# Altium footprint library Mega16SMT.PcbLib: 22 footprints (part 1 of 2)
Each footprint in its own frame and in the unit in brackets; x right, y up, seen from the top. Pads: shape width x height; smd on the part's side, far side on the other; paste and mask are expansions set on the pad; w line width, h text height; cw(c..) or ccw(c..) is an arc to the next point about the centre after c.
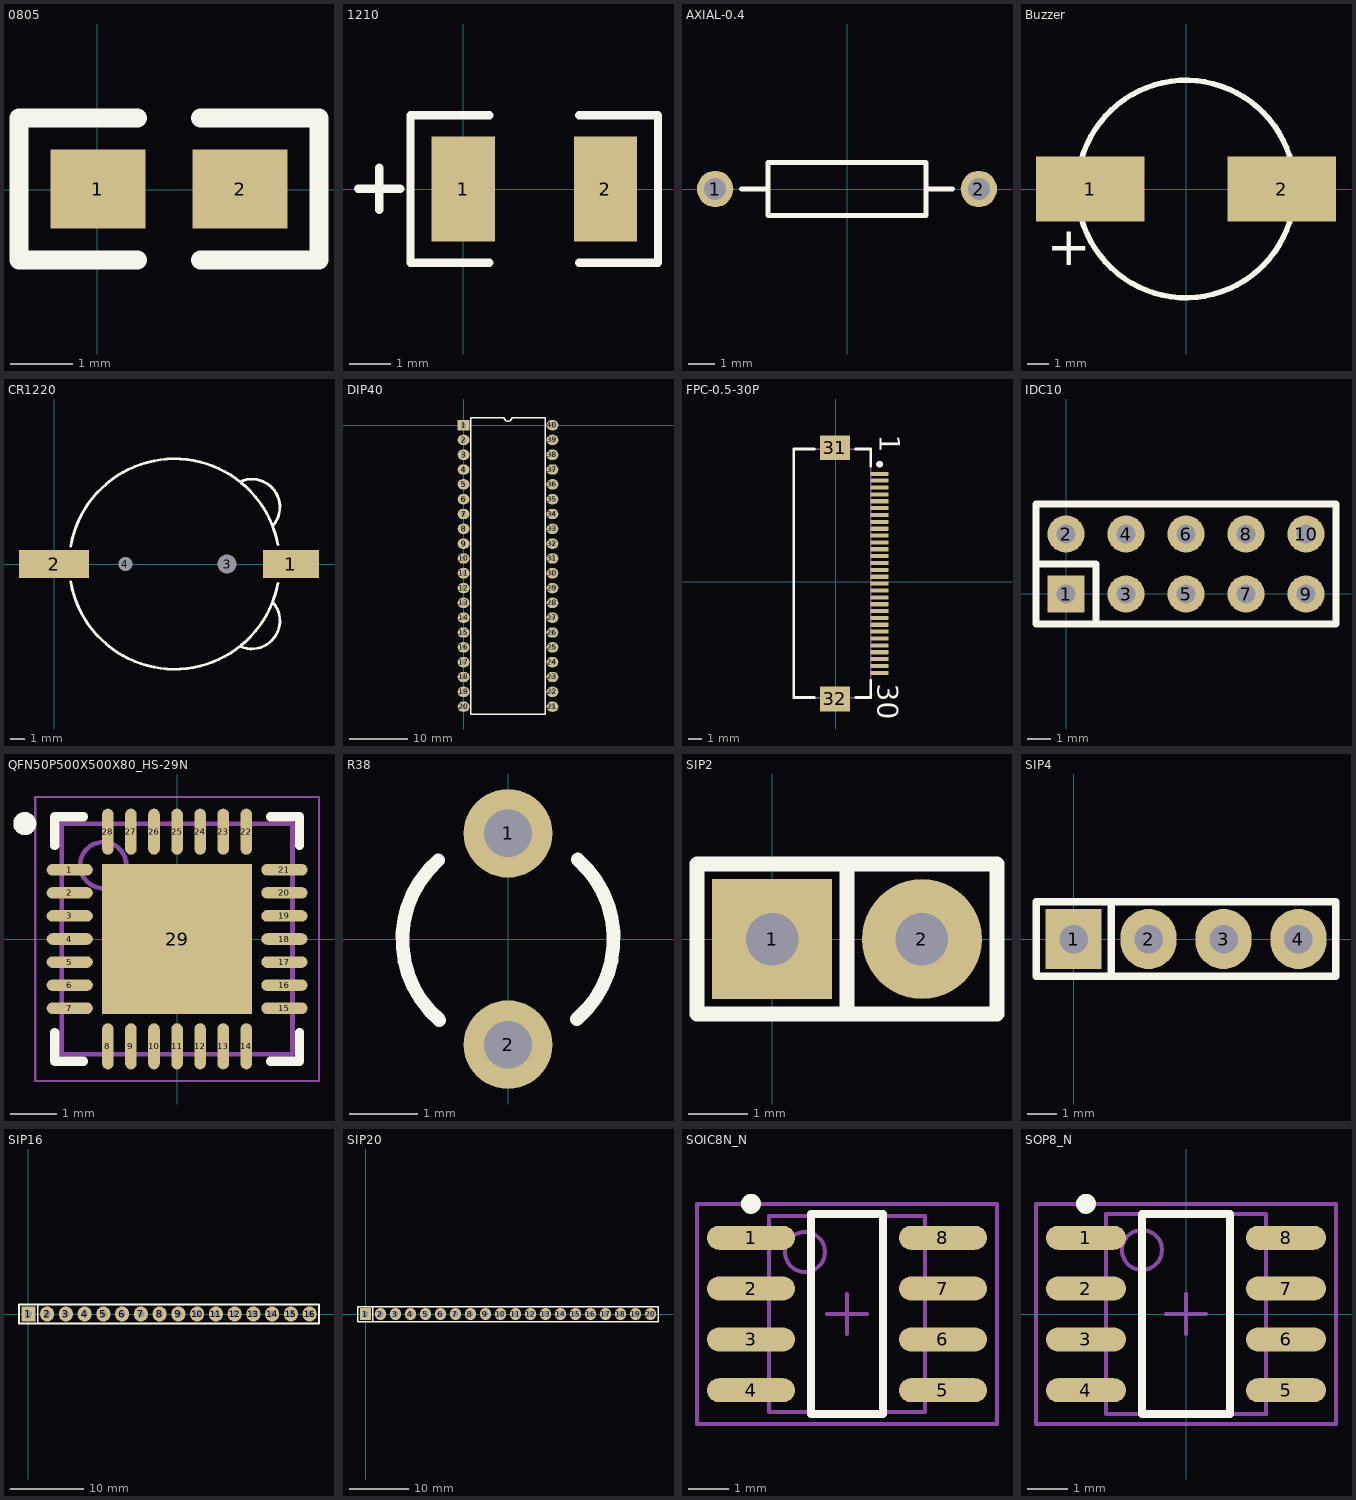
[diagram p0: the footprints below, top view; thin cyan lines are the x and y axes]

## 0805 [mil]
pads (2):
  rect 60x50 smd: 1(0.36,0.6) 2(90.36,0.6)
Top Overlay:
  lines w12: 25.36,-44.4 -49.64,-44.4 -49.64,45.6 25.36,45.6 ; 65.36,-44.4 140.36,-44.4 140.36,45.6 65.36,45.6

## 1210 [mil]
pads (2):
  rect 60x100 smd: 1(0,0) 2(135,0)
Top Overlay:
  lines w7.87: 25,-70 -50,-70 -50,70 25,70 ; 110,-70 185,-70 185,70 110,70
  lines w8: -99.89,0.18 -59.89,0.18 ; -79.89,-19.82 -79.89,20.18

## AXIAL-0.4 [mm]
pads (2):
  round 1.4 hole 0.85: 1(-5.08,0) 2(5.08,0)
Top Overlay:
  lines w0.2: -4.064,0 -3.048,0 ; 3.048,0 4.064,0 ; -3.048,-1.016 3.048,-1.016 3.048,1.016 -3.048,1.016 -3.048,-1.016

## Buzzer [mm]
pads (2):
  rect 5x3 smd: 1(-4.4,0) 2(4.4,0)
Top Overlay:
  circle w0.254: c0,0 r5
  text "+" at -6.4,-3.5 h1.78

## CR1220 [mm]
pads (4):
  rect 4x2 smd: 1(16.891,0)
  rect 5x2 smd: 2(0,0)
  round 1.2 hole 1.35: 3(12.336,0)
  round 0.95 hole 1: 4(5.086,0)
Top Overlay:
  lines w0.203: 1.193,-1.262 ccw(c8.586,0) 15.956,-1.388 ; 1.193,1.261 cw(c8.586,0) 15.956,1.388 ; 13.265,5.868 cw(c14.099,4.049) 15.643,2.776 ; 13.314,-5.89 ccw(c14.099,-4.049) 15.643,-2.776

## DIP40 [mil]
pads (40):
  rect 80x70 hole 32: 1(0.37,0)
  oval 80x70 hole 32: 2(0.37,-100) 3(0.37,-200) 4(0.37,-300) 5(0.37,-400) 6(0.37,-500) 7(0.37,-600) 8(0.37,-700) 9(0.37,-800) 10(0.37,-900) 11(0.37,-1000) 12(0.37,-1100) 13(0.37,-1200) 14(0.37,-1300) 15(0.37,-1400) 16(0.37,-1500) 17(0.37,-1600) 18(0.37,-1700) 19(0.37,-1800) 20(0.37,-1900) 21(600.37,-1900) 22(600.37,-1800) 23(600.37,-1700) 24(600.37,-1600) 25(600.37,-1500) 26(600.37,-1400) 27(600.37,-1300) 28(600.37,-1200) 29(600.37,-1100) 30(600.37,-1000) 31(600.37,-900) 32(600.37,-800) 33(600.37,-700) 34(600.37,-600) 35(600.37,-500) 36(600.37,-400) 37(600.37,-300) 38(600.37,-200) 39(600.37,-100) 40(600.37,0)
Top Overlay:
  lines w10: 50.37,-1950 50.37,50 275.37,50 ccw(c300.37,50) 325.37,50 550.37,50 550.37,-1950 50.37,-1950

## FPC-0.5-30P [mm]
pads (32):
  rect 1.3x0.3 smd: 1(3.2,7.869) 2(3.2,7.369) 3(3.2,6.869) 4(3.2,6.369) 5(3.2,5.869) 6(3.2,5.369) 7(3.2,4.869) 8(3.2,4.369) 9(3.2,3.869) 10(3.2,3.369) 11(3.2,2.869) 12(3.2,2.369) 13(3.2,1.869) 14(3.2,1.369) 15(3.2,0.869) 16(3.2,0.369) 17(3.2,-0.131) 18(3.2,-0.631) 19(3.2,-1.131) 20(3.2,-1.631) 21(3.2,-2.131) 22(3.2,-2.631) 23(3.2,-3.131) 24(3.2,-3.631) 25(3.2,-4.131) 26(3.2,-4.631) 27(3.2,-5.131) 28(3.2,-5.631) 29(3.2,-6.131) 30(3.2,-6.631)
  rect 2.2x1.8 smd: 31(-0.05,9.769) 32(-0.05,-8.531)
Top Overlay:
  circle w0.25: c3.2,8.569 r0.125
  lines w0.2: -1.55,-8.431 -3.05,-8.431 -3.05,9.669 -1.55,9.669 ; 1.45,-8.431 2.55,-8.431 2.55,-7.181 ; 1.45,9.669 2.55,9.669 2.55,8.419
  text "30" at 3.075,-7.438 h1.5
  text "1" at 3.2,10.727 h1.5
Mechanical 13:
  lines w0.1: -3.05,-8.431 -3.05,9.669 2.55,9.669 2.55,-8.431 -3.05,-8.431

## IDC10 [mil]
pads (10):
  rect 62x62 hole 32: 1(-0.03,-0.13)
  round 62 hole 32: 2(-0.03,99.87) 3(99.97,-0.13) 4(99.97,99.87) 5(199.97,-0.13) 6(199.97,99.87) 7(299.97,-0.13) 8(299.97,99.87) 9(399.97,-0.13) 10(399.97,99.87)
Top Overlay:
  lines w12: -50.03,49.87 49.97,49.87 49.97,-50.13 ; -50.03,-50.13 449.97,-50.13 449.97,149.87 -50.03,149.87 -50.03,-50.13

## QFN50P500X500X80_HS-29N [mm] "QFN, 28-Leads, Body 5.00x5.00mm, Pitch 0.50mm, Thermal Pad 3.25x3.25mm, IPC Medium Density"
height 0.8
pads (29):
  oval 1x0.25 smd: 1(-2.325,1.5) 2(-2.325,1) 3(-2.325,0.5) 4(-2.325,0) 5(-2.325,-0.5) 6(-2.325,-1) 7(-2.325,-1.5) 15(2.325,-1.5) 16(2.325,-1) 17(2.325,-0.5) 18(2.325,0) 19(2.325,0.5) 20(2.325,1) 21(2.325,1.5)
  oval 0.25x1 smd: 8(-1.5,-2.325) 9(-1,-2.325) 10(-0.5,-2.325) 11(0,-2.325) 12(0.5,-2.325) 13(1,-2.325) 14(1.5,-2.325) 22(1.5,2.325) 23(1,2.325) 24(0.5,2.325) 25(0,2.325) 26(-0.5,2.325) 27(-1,2.325) 28(-1.5,2.325)
  rect 3.25x3.25 smd: 29(0,0)
Top Overlay:
  circle w0.25: c-3.3,2.5 r0.125
  lines w0.2: -2.65,-2.025 -2.65,-2.65 -2.025,-2.65 ; -2.65,2.025 -2.65,2.65 -2.025,2.65 ; 2.025,-2.65 2.65,-2.65 2.65,-2.025 ; 2.025,2.65 2.65,2.65 2.65,2.025
Assembly Top:
  circle w0.1: c-1.6,1.6 r0.5
  lines w0.1: -2.5,-2.5 -2.5,2.5 2.5,2.5 2.5,-2.5 -2.5,-2.5
Courtyard Top:
  lines w0.05: -3.075,-3.075 -3.075,3.075 3.075,3.075 3.075,-3.075 -3.075,-3.075
3D body: height 0.8, standoff 0, extent -2.5,-2.5 2.5,2.5

## R38 [mm]
pads (2):
  round 1.3 hole 0.7: 1(0,1.55) 2(0,-1.55)
Top Overlay:
  lines w0.2: -1.022,1.155 ccw(c0,-0.01) -1.006,-1.189 ; 1.006,-1.179 ccw(c0,0) 1.022,1.165

## SIP2 [mil]
pads (2):
  rect 80x80 hole 35: 1(0,0)
  round 80 hole 35: 2(100,0)
Top Overlay:
  lines w10: 50,-50 50,50 ; -50,-50 150,-50 150,50 -50,50 -50,-50

## SIP4 [mil]
pads (4):
  rect 75x80 hole 38: 1(-0.07,0.13)
  oval 75x80 hole 38: 2(99.93,0.13) 3(199.93,0.13) 4(299.93,0.13)
Top Overlay:
  lines w10: 49.93,-49.87 49.93,50.13 ; -50.07,-49.87 -50.07,50.13 349.93,50.13 349.93,-49.87 -50.07,-49.87

## SIP16 [mil]
pads (16):
  rect 75x80 hole 38: 1(0,0)
  oval 75x80 hole 38: 2(100,0) 3(200,0) 4(300,0) 5(400,0) 6(500,0) 7(600,0) 8(700,0) 9(800,0) 10(900,0) 11(1000,0) 12(1100,0) 13(1200,0) 14(1300,0) 15(1400,0) 16(1500,0)
Top Overlay:
  lines w10: 50,-50 50,50 ; -50,-50 -50,50 1550,50 1550,-50 -50,-50

## SIP20 [mil]
pads (20):
  rect 75x80 hole 38: 1(-0.24,0.36)
  oval 75x80 hole 38: 2(99.76,0.36) 3(199.76,0.36) 4(299.76,0.36) 5(399.76,0.36) 6(499.76,0.36) 7(599.76,0.36) 8(699.76,0.36) 9(799.76,0.36) 10(899.76,0.36) 11(999.76,0.36) 12(1099.76,0.36) 13(1199.76,0.36) 14(1299.76,0.36) 15(1399.76,0.36) 16(1499.76,0.36) 17(1599.76,0.36) 18(1699.76,0.36) 19(1799.76,0.36) 20(1899.76,0.36)
Top Overlay:
  lines w10: 49.76,-49.64 49.76,50.36 ; -50.24,-49.64 1949.76,-49.64 1949.76,50.36 -50.24,50.36 -50.24,-49.64

## SOIC8N_N [mm]
pads (8):
  oval 2.2x0.6 smd: 1(1151.074,1305.535) 2(1151.074,1304.265) 3(1151.074,1302.995) 4(1151.074,1301.725) 5(1155.874,1301.725) 6(1155.874,1302.995) 7(1155.874,1304.265) 8(1155.874,1305.535)
Top Overlay:
  circle w0.25: c1151.074,1306.385 r0.125
  lines w0.2: 1152.574,1301.13 1152.574,1306.13 1154.374,1306.13 1154.374,1301.13 1152.574,1301.13
Mechanical 13:
  circle w0.1: c1152.424,1305.18 r0.5
  lines w0.1: 1151.524,1301.18 1151.524,1306.08 1155.424,1306.08 1155.424,1301.18 1151.524,1301.18
Mechanical 15:
  lines w0.1: 1152.974,1303.63 1153.974,1303.63 ; 1153.474,1303.13 1153.474,1304.13 ; 1149.724,1300.88 1149.724,1306.38 1157.224,1306.38 1157.224,1300.88 1149.724,1300.88
3D body: height 1.75, standoff 0, extent 1151.524,1301.18 1155.424,1306.08

## SOP8_N [mm]
pads (8):
  oval 2x0.6 smd: 1(-2.5,1.905) 2(-2.5,0.635) 3(-2.5,-0.635) 4(-2.5,-1.905) 5(2.5,-1.905) 6(2.5,-0.635) 7(2.5,0.635) 8(2.5,1.905)
Top Overlay:
  circle w0.25: c-2.5,2.755 r0.125
  lines w0.2: -1.1,-2.5 1.1,-2.5 1.1,2.5 -1.1,2.5 -1.1,-2.5
Mechanical 13:
  circle w0.1: c-1.1,1.6 r0.5
  lines w0.1: -2,-2.5 2,-2.5 2,2.5 -2,2.5 -2,-2.5
Mechanical 15:
  lines w0.1: -0.5,0 0.5,0 ; 0,-0.5 0,0.5 ; -3.75,-2.75 3.75,-2.75 3.75,2.75 -3.75,2.75 -3.75,-2.75
3D body: height 1.75, standoff 0, extent -2,-2.5 2,2.5